# EAGLE library part 693061010911 (library WR-CRD)
WR-CRD SD Card Connector Push & Push with Card Detection KIND PROPERTIES Gender:Socket Type:Push & Push General Information Operating Temperature:-25 up to +85 °C Electrical Properties Working Voltage:100 V (AC) Withstanding Voltage:500 V (AC) Contact Resistance:100 mΩ Material Properties Insulator MateriaL:LCP Insulator Flammability Rating:UL94 V-0 Color:Black Contact Material:Copper Alloy Contact Plating:Selective Gold Contact Type:Stamped Shielding Material:Stainless Steel <https://www.we-online.com/components/media/o33071v209%20Family_WR-CRD_SD%20Kartensockel_Push%20u.%20Push_693061010911.jpg> Details see: www.we-online.com/en/components/products/CRD_SD_PUSH_AND_PUSH_CRD_DETETCION_9_PINS Created by Yingchun,Shan 2019-11-22 2019 (C) Würth Elektronik
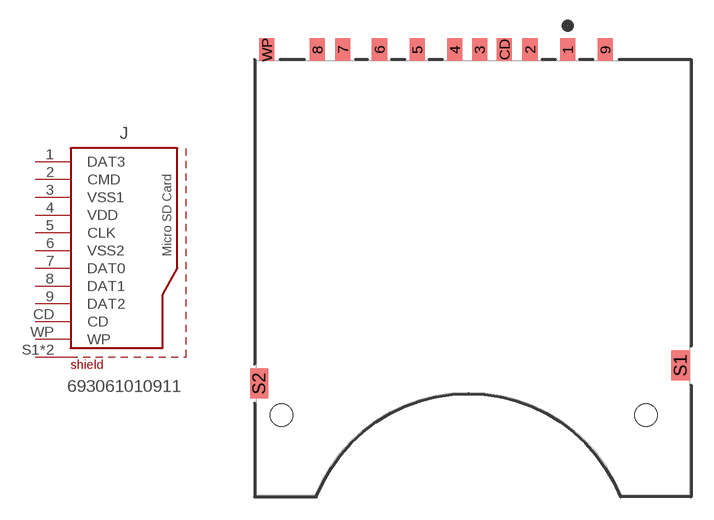
[diagram p6: symbol with the pads of 693061010911; footprint 693061010911]

Designator prefix J

## 693061010911 (DATASHEET-URL: https://www.we-online.com/redexpert/spec/693061010911?ae; GERDER: Socket; IR: 0.5A; MOUNT: SMT; PART-NUMBER: 693061010911; PINS: 9; TYPE: Push & Push; VALUE: 693061010911; WORKING-VOLTAGE: 100V(AC))  [693061010911]
1  DAT3
2  CMD
3  VSS1
4  VDD
5  CLK
6  VSS2
7  DAT0
8  DAT1
9  DAT2
CD  CD
S1  SHIELD
S2  SHIELD
WP  WP

## Footprint 693061010911 (pad centres in mm)
WR-CRD SD Card Connector Push & Push with Card Detection 9 pins
smd 1 x 1.5: 1 6.3,15.2; 2 3.8,15.2; 3 0.45,15.2; 4 -1.2,15.2; 5 -3.7,15.2; 6 -6.2,15.2; 7 -8.63,15.2; 8 -10.33,15.2; 9 8.8,15.2; CD 2.1,15.2; WP -13.68,15.2
smd 1.2 x 2: S1 13.8,-5.81; S2 -14.2,-7.01
hole 1.5 at -12.7,-9.11
hole 1.5 at 11.5,-9.11